# Altium footprint library XC6206P122MR-G.PCBLIB: 1 footprints
Each footprint in its own frame and in the unit in brackets; x right, y up, seen from the top. Pads: shape width x height; smd on the part's side, far side on the other; paste and mask are expansions set on the pad; w line width, h text height; cw(c..) or ccw(c..) is an arc to the next point about the centre after c.
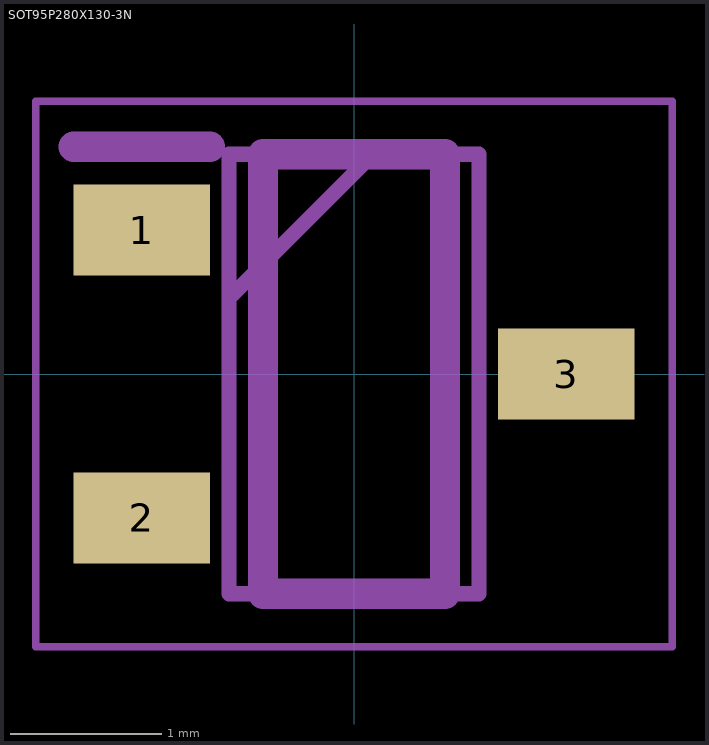
[diagram p0: the footprint, top view; thin cyan lines are the x and y axes]

## SOT95P280X130-3N [mm]
pads (3):
  rect 0.9x0.6 smd: 1(-1.4,0.95) 2(-1.4,-0.95) 3(1.4,0)
tDocu:
  lines w0.05: -2.1,-1.8 2.1,-1.8 2.1,1.8 -2.1,1.8 -2.1,-1.8
  lines w0.1: -0.825,0.5 0.125,1.45 ; -0.825,-1.45 0.825,-1.45 0.825,1.45 -0.825,1.45 -0.825,-1.45
tPlace:
  lines w0.2: -1.85,1.5 -0.95,1.5 ; -0.6,-1.45 0.6,-1.45 0.6,1.45 -0.6,1.45 -0.6,-1.45